# EAGLE library part LIS3DE (library stock_components)
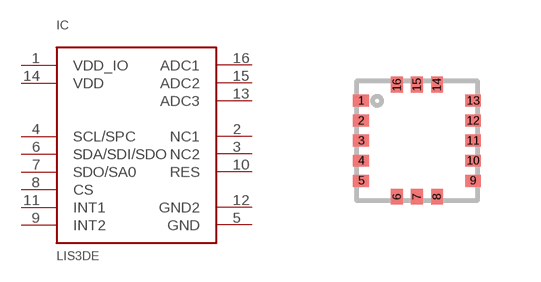
[diagram p2: symbol with the pads of LGA-16; footprint LGA-16]

Designator prefix IC

## LIS3DE  [LGA-16]
1  VDD_IO
2  NC1
3  NC2
4  SCL/SPC
5  GND
6  SDA/SDI/SDO
7  SDO/SA0
8  CS
9  INT2
10  RES
11  INT1
12  GND2
13  ADC3
14  VDD
15  ADC2
16  ADC1

## Footprint LGA-16 (pad centres in mm)
smd 0.4 x 0.3: 1 -1.4,1; 2 -1.4,0.5; 3 -1.4,0; 4 -1.4,-0.5; 5 -1.4,-1; 9 1.4,-1; 10 1.4,-0.5; 11 1.4,0; 12 1.4,0.5; 13 1.4,1
smd 0.3 x 0.4: 6 -0.5,-1.4; 7 0,-1.4; 8 0.5,-1.4; 14 0.5,1.4; 15 0,1.4; 16 -0.5,1.4